# EAGLE library part ESP-POE (library ESP-POE-RevB)
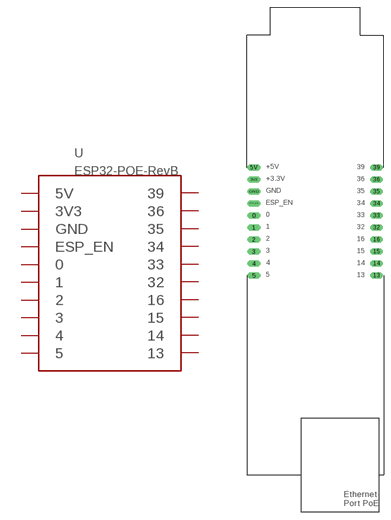
[diagram p0: symbol with the pads of ESP-POE; footprint ESP-POE]

Designator prefix -

## ESP-POE  [ESP-POE]
0  0
1  1
2  2
3  3
3V3  3V3
4  4
5  5
5V  5V
13  13
14  14
15  15
16  16
32  32
33  33
34  34
35  35
36  36
39  39
ESP_EN  ESP_EN
GND  GND

## Footprint ESP-POE (pad centres in mm)
drill 0.9 pad 1.3 long: 0 0,-10.16; 1 0,-12.7; 2 0,-15.24; 3 0,-17.78; 3V3 0,-2.54; 4 0,-20.32; 5 0,-22.86; 5V 0,0; 13 26,-22.86; 14 26,-20.32; 15 26,-17.78; 16 26,-15.24; 32 26,-12.7; 33 26,-10.16; 34 26,-7.62; 35 26,-5.08; 36 26,-2.54; 39 26,0; ESP_EN 0,-7.62; GND 0,-5.08